# Altium footprint library PcbLib1.PcbLib: 17 footprints (part 2 of 2)
Each footprint in its own frame and in the unit in brackets; x right, y up, seen from the top. Pads: shape width x height; smd on the part's side, far side on the other; paste and mask are expansions set on the pad; w line width, h text height; cw(c..) or ccw(c..) is an arc to the next point about the centre after c.
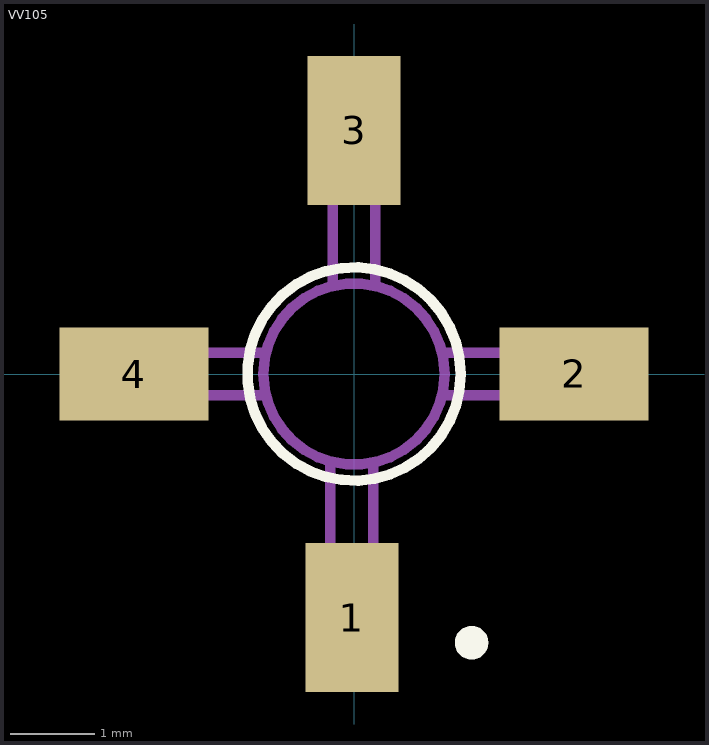
[diagram p1: the footprint, top view; thin cyan lines are the x and y axes]

## VV105 [mil]
pads (4):
  rect 43.62x70 smd: 1(-1,-114.17) 3(0,114.17)
  rect 70x43.62 smd: 2(103.17,0.04) 4(-103.17,-0.04)
Top Overlay:
  circle w4.92: c0,0 r50
  circle w7.87: c55.12,-125.98 r3.94
Mechanical 1:
  circle w4.92: c0,0 r42.52
  lines w4.92: -42.52,-10.04 -125,-10.04 -125,10.04 -42.52,10.04 ; -11.08,-42 -11.08,-136 9,-136 9,-43 ; -10,43 -10,136 10.08,136 10.08,42 ; 42.52,-10.04 125,-10.04 125,10.04 42.52,10.04